# Altium footprint library SOP.PcbLib: 40 footprints (part 2 of 3)
Each footprint in its own frame and in the unit in brackets; x right, y up, seen from the top. Pads: shape width x height; smd on the part's side, far side on the other; paste and mask are expansions set on the pad; w line width, h text height; cw(c..) or ccw(c..) is an arc to the next point about the centre after c.
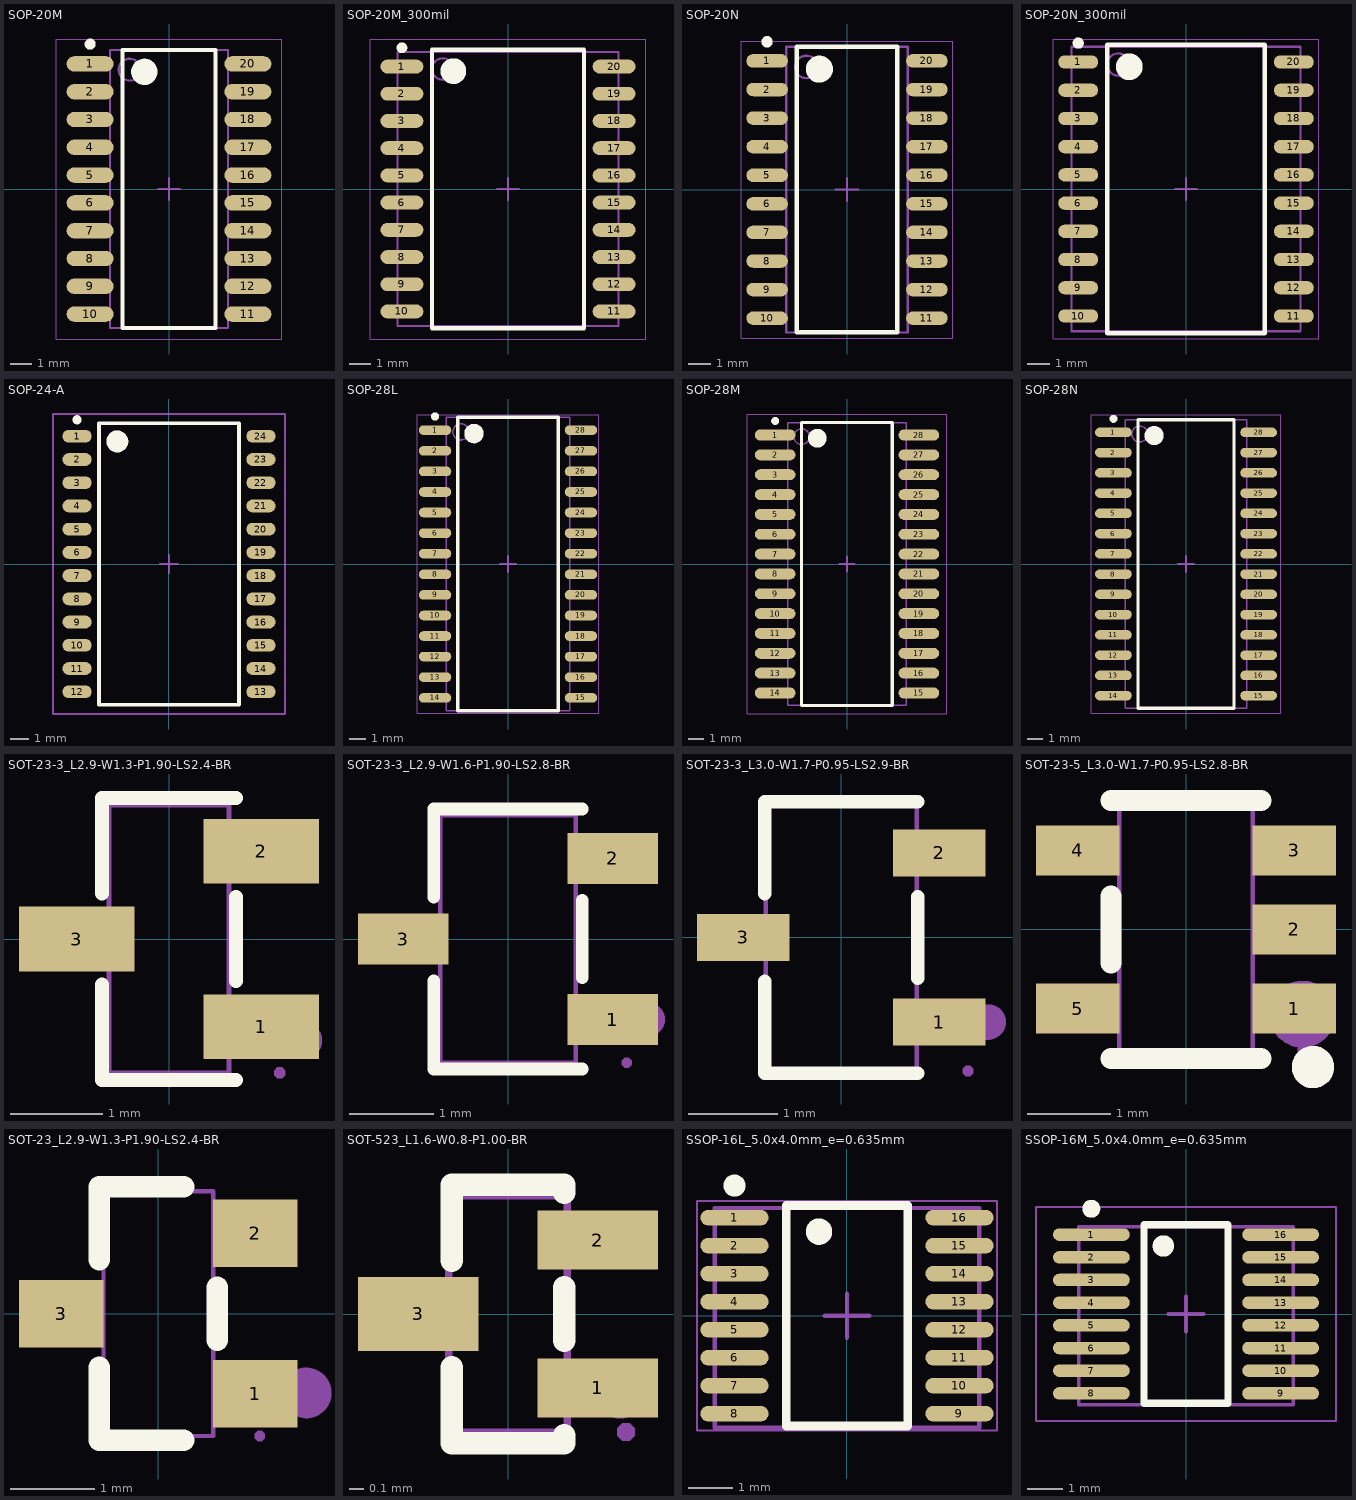
[diagram p1: the footprints below, top view; thin cyan lines are the x and y axes]

## SOP-20M [mm] "SOP, 20-Leads, Body 12.60x5.30mm, Pitch 1.27mm, IPC Low Density"
height 2.1
pads (20):
  oval 2.15x0.7 smd: 1(-3.6,5.715) 2(-3.6,4.445) 3(-3.6,3.175) 4(-3.6,1.905) 5(-3.6,0.635) 6(-3.6,-0.635) 7(-3.6,-1.905) 8(-3.6,-3.175) 9(-3.6,-4.445) 10(-3.6,-5.715) 11(3.6,-5.715) 12(3.6,-4.445) 13(3.6,-3.175) 14(3.6,-1.905) 15(3.6,-0.635) 16(3.6,0.635) 17(3.6,1.905) 18(3.6,3.175) 19(3.6,4.445) 20(3.6,5.715)
Top Overlay:
  circle w0.25: c-3.6,6.615 r0.125
  circle w0.6: c-1.125,5.35 r0.3
  lines w0.2: -2.125,-6.35 -2.125,6.35 2.125,6.35 2.125,-6.35 -2.125,-6.35
Mechanical 13:
  circle w0.1: c-1.8,5.45 r0.5
  lines w0.1: -2.7,-6.35 -2.7,6.35 2.7,6.35 2.7,-6.35 -2.7,-6.35
Mechanical 15:
  lines w0.05: -5.15,-6.85 -5.15,6.85 5.15,6.85 5.15,-6.85 -5.15,-6.85
  lines w0.1: -0.5,0 0.5,0 ; 0,-0.5 0,0.5
3D body: height 2.1, standoff 0.25, extent -2.7,-6.35 2.7,6.35

## SOP-20M_300mil [mm] "SOP, 20-Leads, Body 12.70x7.65mm, Pitch 1.27mm, IPC Low Density"
height 2.35
pads (20):
  oval 2x0.65 smd: 1(-4.95,5.715) 2(-4.95,4.445) 3(-4.95,3.175) 4(-4.95,1.905) 5(-4.95,0.635) 6(-4.95,-0.635) 7(-4.95,-1.905) 8(-4.95,-3.175) 9(-4.95,-4.445) 10(-4.95,-5.715) 11(4.95,-5.715) 12(4.95,-4.445) 13(4.95,-3.175) 14(4.95,-1.905) 15(4.95,-0.635) 16(4.95,0.635) 17(4.95,1.905) 18(4.95,3.175) 19(4.95,4.445) 20(4.95,5.715)
Top Overlay:
  circle w0.6: c-2.55,5.5 r0.3
  circle w0.25: c-4.95,6.59 r0.125
  lines w0.2: -3.55,-6.5 3.55,-6.5 3.55,6.5 -3.55,6.5 -3.55,-6.5
Mechanical 13:
  circle w0.1: c-3.05,5.6 r0.5
  lines w0.1: -5.15,-6.4 -5.15,6.4 5.15,6.4 5.15,-6.4 -5.15,-6.4
Mechanical 15:
  lines w0.05: -6.425,-7 6.425,-7 6.425,7 -6.425,7 -6.425,-7
  lines w0.1: -0.5,0 0.5,0 ; 0,-0.5 0,0.5
3D body "SOP-20_300mil.STEP": height 2.7, standoff 0, extent -5.15,-6.4 5.15,6.4

## SOP-20N [mm] "SOP, 20-Leads, Body 12.60x5.30mm, Pitch 1.27mm, IPC Medium Density"
height 2.1
pads (20):
  oval 1.85x0.6 smd: 1(-3.55,5.715) 2(-3.55,4.445) 3(-3.55,3.175) 4(-3.55,1.905) 5(-3.55,0.635) 6(-3.55,-0.635) 7(-3.55,-1.905) 8(-3.55,-3.175) 9(-3.55,-4.445) 10(-3.55,-5.715) 11(3.55,-5.715) 12(3.55,-4.445) 13(3.55,-3.175) 14(3.55,-1.905) 15(3.55,-0.635) 16(3.55,0.635) 17(3.55,1.905) 18(3.55,3.175) 19(3.55,4.445) 20(3.55,5.715)
Top Overlay:
  circle w0.6: c-1.225,5.35 r0.3
  circle w0.25: c-3.55,6.565 r0.125
  lines w0.2: -2.225,-6.35 2.225,-6.35 2.225,6.35 -2.225,6.35 -2.225,-6.35
Mechanical 13:
  circle w0.1: c-1.8,5.45 r0.5
  lines w0.1: -2.7,-6.35 2.7,-6.35 2.7,6.35 -2.7,6.35 -2.7,-6.35
Mechanical 15:
  lines w0.05: -4.7,-6.6 4.7,-6.6 4.7,6.6 -4.7,6.6 -4.7,-6.6
  lines w0.1: -0.5,0 0.5,0 ; 0,-0.5 0,0.5
3D body: height 2.1, standoff 0.25, extent -2.7,-6.35 2.7,6.35

## SOP-20N_300mil [mm] "SOP, 20-Leads, Body 12.70x7.65mm, Pitch 1.27mm, IPC Medium Density"
height 2.35
pads (20):
  oval 1.8x0.6 smd: 1(-4.85,5.715) 2(-4.85,4.445) 3(-4.85,3.175) 4(-4.85,1.905) 5(-4.85,0.635) 6(-4.85,-0.635) 7(-4.85,-1.905) 8(-4.85,-3.175) 9(-4.85,-4.445) 10(-4.85,-5.715) 11(4.85,-5.715) 12(4.85,-4.445) 13(4.85,-3.175) 14(4.85,-1.905) 15(4.85,-0.635) 16(4.85,0.635) 17(4.85,1.905) 18(4.85,3.175) 19(4.85,4.445) 20(4.85,5.715)
Top Overlay:
  circle w0.6: c-2.55,5.5 r0.3
  circle w0.25: c-4.85,6.565 r0.125
  lines w0.2: -3.55,-6.5 3.55,-6.5 3.55,6.5 -3.55,6.5 -3.55,-6.5
Mechanical 13:
  circle w0.1: c-3.05,5.6 r0.5
  lines w0.1: -5.15,-6.4 5.15,-6.4 5.15,6.4 -5.15,6.4 -5.15,-6.4
Mechanical 15:
  lines w0.05: -5.975,-6.75 5.975,-6.75 5.975,6.75 -5.975,6.75 -5.975,-6.75
  lines w0.1: -0.5,0 0.5,0 ; 0,-0.5 0,0.5
3D body "SOP-20_300mil.STEP": height 2.7, standoff 0, extent -5.15,-6.4 5.15,6.4

## SOP-24-A [mm] "SOP, 24-Leads, Body 15.4x7.6mm (max), Pitch 1.27mm, IPC Low Density"
height 1.75
pads (24):
  oval 1.6x0.7 smd: 1(-5.025,6.985) 2(-5.025,5.715) 3(-5.025,4.445) 4(-5.025,3.175) 5(-5.025,1.905) 6(-5.025,0.635) 7(-5.025,-0.635) 8(-5.025,-1.905) 9(-5.025,-3.175) 10(-5.025,-4.445) 11(-5.025,-5.715) 12(-5.025,-6.985) 13(5.025,-6.985) 14(5.025,-5.715) 15(5.025,-4.445) 16(5.025,-3.175) 17(5.025,-1.905) 18(5.025,-0.635) 19(5.025,0.635) 20(5.025,1.905) 21(5.025,3.175) 22(5.025,4.445) 23(5.025,5.715) 24(5.025,6.985)
Top Overlay:
  circle w0.6: c-2.825,6.7 r0.3
  circle w0.25: c-5.025,7.885 r0.125
  lines w0.2: -3.825,-7.7 3.825,-7.7 3.825,7.7 -3.825,7.7 -3.825,-7.7
Mechanical 13:
  circle w0.1: c-2.85,6.75 r0.5
  lines w0.1: -3.8,-7.7 3.8,-7.7 3.8,7.7 -3.8,7.7 -3.8,-7.7
Mechanical 15:
  lines w0.1: -0.5,0 0.5,0 ; 0,-0.5 0,0.5 ; -6.35,-8.2 6.35,-8.2 6.35,8.2 -6.35,8.2 -6.35,-8.2
3D body: height 1.75, standoff 0.2, extent -3.8,-7.7 3.8,7.7

## SOP-28L [mm] "SOP, 28-Leads, Body 17.90x7.06mm, Pitch 1.27mm, IPC High Density"
height 2.64
pads (28):
  oval 2x0.6 smd: 1(-4.5,8.255) 2(-4.5,6.985) 3(-4.5,5.715) 4(-4.5,4.445) 5(-4.5,3.175) 6(-4.5,1.905) 7(-4.5,0.635) 8(-4.5,-0.635) 9(-4.5,-1.905) 10(-4.5,-3.175) 11(-4.5,-4.445) 12(-4.5,-5.715) 13(-4.5,-6.985) 14(-4.5,-8.255) 15(4.5,-8.255) 16(4.5,-6.985) 17(4.5,-5.715) 18(4.5,-4.445) 19(4.5,-3.175) 20(4.5,-1.905) 21(4.5,-0.635) 22(4.5,0.635) 23(4.5,1.905) 24(4.5,3.175) 25(4.5,4.445) 26(4.5,5.715) 27(4.5,6.985) 28(4.5,8.255)
Top Overlay:
  circle w0.6: c-2.1,8.05 r0.3
  circle w0.25: c-4.5,9.105 r0.125
  lines w0.2: -3.1,-9.05 3.1,-9.05 3.1,9.05 -3.1,9.05 -3.1,-9.05
Mechanical 13:
  circle w0.1: c-2.9,8.15 r0.5
  lines w0.1: -3.8,-9.05 3.8,-9.05 3.8,9.05 -3.8,9.05 -3.8,-9.05
Mechanical 15:
  lines w0.05: -5.6,-9.2 5.6,-9.2 5.6,9.2 -5.6,9.2 -5.6,-9.2
  lines w0.1: -0.5,0 0.5,0 ; 0,-0.5 0,0.5
3D body: height 2.64, standoff 0.2, extent -3.8,-9.05 3.8,9.05

## SOP-28M [mm] "SOP, 28-Leads, Body 17.90x7.06mm, Pitch 1.27mm, IPC Low Density"
height 2.64
pads (28):
  oval 2.6x0.7 smd: 1(-4.6,8.255) 2(-4.6,6.985) 3(-4.6,5.715) 4(-4.6,4.445) 5(-4.6,3.175) 6(-4.6,1.905) 7(-4.6,0.635) 8(-4.6,-0.635) 9(-4.6,-1.905) 10(-4.6,-3.175) 11(-4.6,-4.445) 12(-4.6,-5.715) 13(-4.6,-6.985) 14(-4.6,-8.255) 15(4.6,-8.255) 16(4.6,-6.985) 17(4.6,-5.715) 18(4.6,-4.445) 19(4.6,-3.175) 20(4.6,-1.905) 21(4.6,-0.635) 22(4.6,0.635) 23(4.6,1.905) 24(4.6,3.175) 25(4.6,4.445) 26(4.6,5.715) 27(4.6,6.985) 28(4.6,8.255)
Top Overlay:
  circle w0.25: c-4.6,9.155 r0.125
  circle w0.6: c-1.9,8.05 r0.3
  lines w0.2: -2.9,-9.05 -2.9,9.05 2.9,9.05 2.9,-9.05 -2.9,-9.05
Mechanical 13:
  circle w0.1: c-2.9,8.15 r0.5
  lines w0.1: -3.8,-9.05 -3.8,9.05 3.8,9.05 3.8,-9.05 -3.8,-9.05
Mechanical 15:
  lines w0.05: -6.4,-9.6 -6.4,9.6 6.4,9.6 6.4,-9.6 -6.4,-9.6
  lines w0.1: -0.5,0 0.5,0 ; 0,-0.5 0,0.5
3D body: height 2.64, standoff 0.2, extent -3.8,-9.05 3.8,9.05

## SOP-28N [mm] "SOP, 28-Leads, Body 17.90x7.06mm, Pitch 1.27mm, IPC Medium Density"
height 2.64
pads (28):
  oval 2.3x0.6 smd: 1(-4.55,8.255) 2(-4.55,6.985) 3(-4.55,5.715) 4(-4.55,4.445) 5(-4.55,3.175) 6(-4.55,1.905) 7(-4.55,0.635) 8(-4.55,-0.635) 9(-4.55,-1.905) 10(-4.55,-3.175) 11(-4.55,-4.445) 12(-4.55,-5.715) 13(-4.55,-6.985) 14(-4.55,-8.255) 15(4.55,-8.255) 16(4.55,-6.985) 17(4.55,-5.715) 18(4.55,-4.445) 19(4.55,-3.175) 20(4.55,-1.905) 21(4.55,-0.635) 22(4.55,0.635) 23(4.55,1.905) 24(4.55,3.175) 25(4.55,4.445) 26(4.55,5.715) 27(4.55,6.985) 28(4.55,8.255)
Top Overlay:
  circle w0.25: c-4.55,9.105 r0.125
  circle w0.6: c-2,8.05 r0.3
  lines w0.2: -3,-9.05 -3,9.05 3,9.05 3,-9.05 -3,-9.05
Mechanical 13:
  circle w0.1: c-2.9,8.15 r0.5
  lines w0.1: -3.8,-9.05 -3.8,9.05 3.8,9.05 3.8,-9.05 -3.8,-9.05
Mechanical 15:
  lines w0.05: -5.95,-9.35 -5.95,9.35 5.95,9.35 5.95,-9.35 -5.95,-9.35
  lines w0.1: -0.5,0 0.5,0 ; 0,-0.5 0,0.5
3D body: height 2.64, standoff 0.2, extent -3.8,-9.05 3.8,9.05

## SOT-23-3_L2.9-W1.3-P1.90-LS2.4-BR [mm]
pads (3):
  rect 1.25x0.7 smd paste+0 mask+0.051: 1(1,-0.95) 2(1,0.95) 3(-1,0)
Top Overlay:
  lines w0.152: -0.726,-0.495 -0.726,-1.526 0.726,-1.526 ; -0.726,0.495 -0.726,1.526 0.726,1.526 ; 0.726,-0.455 0.726,0.455
Mechanical 6:
  circle w0.2: c1.46,-1.1 r0.1
Mechanical 15:
  region: -1.2,-0.215 -1.2,0.215 -0.9,0.215 -0.9,-0.215
  region: -0.91,-0.215 -0.91,0.215 -0.64,0.215 -0.64,-0.215
  region: 0.9,-1.165 0.9,-0.735 1.2,-0.735 1.2,-1.165
  region: 0.64,-1.165 0.64,-0.735 0.91,-0.735 0.91,-1.165
  region: 0.9,0.735 0.9,1.165 1.2,1.165 1.2,0.735
  region: 0.64,0.735 0.64,1.165 0.91,1.165 0.91,0.735
  region: 1.2,-1.51 1.225,-1.51 1.26,-1.475 1.26,-1.425 1.225,-1.39 1.2,-1.39 1.175,-1.39 1.14,-1.425 1.14,-1.475 1.175,-1.51 1.2,-1.51
  lines w0.051: -0.65,-1.45 0.65,-1.45 0.65,1.45 -0.65,1.45 -0.65,-1.45

## SOT-23-3_L2.9-W1.6-P1.90-LS2.8-BR [mm]
pads (3):
  rect 1.07x0.6 smd paste+0 mask+0.051: 1(1.235,-0.95) 2(1.235,0.95) 3(-1.235,0)
Top Overlay:
  lines w0.152: -0.876,-0.495 -0.876,-1.536 0.876,-1.536 ; -0.876,0.495 -0.876,1.536 0.876,1.536 ; 0.876,-0.455 0.876,0.455
Mechanical 6:
  circle w0.2: c1.651,-0.95 r0.1
Mechanical 15:
  region: -0.96,-0.2 -0.96,0.2 -0.79,0.2 -0.79,-0.2
  region: -0.95,-0.2 -0.95,0.2 -1.4,0.2 -1.4,-0.2
  region: 0.79,0.75 0.79,1.15 0.96,1.15 0.96,0.75
  region: 0.95,0.75 0.95,1.15 1.4,1.15 1.4,0.75
  region: 0.79,-1.15 0.79,-0.75 0.96,-0.75 0.96,-1.15
  region: 0.95,-1.15 0.95,-0.75 1.4,-0.75 1.4,-1.15
  region: 1.4,-1.52 1.425,-1.52 1.46,-1.485 1.46,-1.435 1.425,-1.4 1.4,-1.4 1.375,-1.4 1.34,-1.435 1.34,-1.485 1.375,-1.52 1.4,-1.52
  lines w0.051: -0.8,-1.46 0.8,-1.46 0.8,1.46 -0.8,1.46 -0.8,-1.46

## SOT-23-3_L3.0-W1.7-P0.95-LS2.9-BR [mm]
pads (3):
  rect 1.037x0.532 smd paste+0 mask+0.051: 1(1.101,-0.95) 2(1.101,0.95) 3(-1.101,0)
Top Overlay:
  lines w0.152: -0.859,-0.495 -0.859,-1.526 0.859,-1.526 ; -0.859,0.495 -0.859,1.526 0.859,1.526 ; 0.859,-0.455 0.859,0.455
Mechanical 6:
  circle w0.2: c1.65,-0.95 r0.1
Mechanical 15:
  region: 1,-1.137 1,-0.762 1.425,-0.762 1.425,-1.137
  region: 0.815,-1.137 0.815,-0.762 1.01,-0.762 1.01,-1.137
  region: 1,0.762 1,1.137 1.425,1.137 1.425,0.762
  region: 0.815,0.762 0.815,1.137 1.01,1.137 1.01,0.762
  region: -1.425,-0.188 -1.425,0.188 -1,0.188 -1,-0.188
  region: -1.01,-0.188 -1.01,0.188 -0.815,0.188 -0.815,-0.188
  region: 1.425,-1.56 1.45,-1.56 1.485,-1.525 1.485,-1.475 1.45,-1.44 1.425,-1.44 1.4,-1.44 1.365,-1.475 1.365,-1.525 1.4,-1.56 1.425,-1.56
  lines w0.051: -0.85,-1.5 -0.85,1.5 0.85,1.5 0.85,-1.5 -0.85,-1.5

## SOT-23-5_L3.0-W1.7-P0.95-LS2.8-BR [mm]
pads (5):
  rect 1x0.6 smd paste+0 mask+0.051: 1(1.3,-0.95) 2(1.3,0) 3(1.3,0.95) 4(-1.3,0.95) 5(-1.3,-0.95)
Top Overlay:
  circle w0.254: c1.524,-1.651 r0.127
  lines w0.254: -0.9,-1.55 0.9,-1.55 ; -0.9,-0.4 -0.9,0.4 ; -0.9,1.55 0.9,1.55
Mechanical 6:
  circle w0.4: c1.397,-1.016 r0.2
Mechanical 15:
  region: 1.4,-1.51 1.425,-1.51 1.46,-1.475 1.46,-1.425 1.425,-1.39 1.4,-1.39 1.375,-1.39 1.34,-1.425 1.34,-1.475 1.375,-1.51 1.4,-1.51
  region: 0.79,-1.15 0.79,-0.75 0.96,-0.75 0.96,-1.15
  region: 0.95,-1.15 0.95,-0.75 1.4,-0.75 1.4,-1.15
  region: 0.79,-0.2 0.79,0.2 0.96,0.2 0.96,-0.2
  region: 0.95,-0.2 0.95,0.2 1.4,0.2 1.4,-0.2
  region: 0.79,0.75 0.79,1.15 0.96,1.15 0.96,0.75
  region: 0.95,0.75 0.95,1.15 1.4,1.15 1.4,0.75
  region: -0.96,0.75 -0.96,1.15 -0.79,1.15 -0.79,0.75
  region: -1.4,0.75 -1.4,1.15 -0.95,1.15 -0.95,0.75
  region: -0.96,-1.15 -0.96,-0.75 -0.79,-0.75 -0.79,-1.15
  region: -1.4,-1.15 -1.4,-0.75 -0.95,-0.75 -0.95,-1.15
  lines w0.051: -0.8,-1.45 0.8,-1.45 0.8,1.45 -0.8,1.45 -0.8,-1.45

## SOT-23_L2.9-W1.3-P1.90-LS2.4-BR [mm]
pads (3):
  rect 1x0.8 smd paste+0 mask+0.051: 1(1.15,-0.95) 2(1.15,0.95) 3(-1.15,0)
Top Overlay:
  lines w0.254: -0.7,-0.636 -0.7,-1.5 0.3,-1.5 ; -0.7,0.636 -0.7,1.5 0.3,1.5 ; 0.7,-0.314 0.7,0.314
Mechanical 6:
  circle w0.3: c1.753,-0.94 r0.15
Mechanical 15:
  region: 1.2,-1.51 1.225,-1.51 1.26,-1.475 1.26,-1.425 1.225,-1.39 1.2,-1.39 1.175,-1.39 1.14,-1.425 1.14,-1.475 1.175,-1.51 1.2,-1.51
  region: 0.64,-1.15 0.64,-0.75 0.81,-0.75 0.81,-1.15
  region: 0.8,-1.15 0.8,-0.75 1.2,-0.75 1.2,-1.15
  region: 0.64,0.75 0.64,1.15 0.81,1.15 0.81,0.75
  region: 0.8,0.75 0.8,1.15 1.2,1.15 1.2,0.75
  region: -0.81,-0.2 -0.81,0.2 -0.64,0.2 -0.64,-0.2
  region: -1.2,-0.2 -1.2,0.2 -0.8,0.2 -0.8,-0.2
  lines w0.051: -0.65,-1.45 -0.65,1.45 0.65,1.45 0.65,-1.45 -0.65,-1.45

## SOT-523_L1.6-W0.8-P1.00-BR [mm]
pads (3):
  rect 0.816x0.4 smd paste+0 mask+0.051: 1(0.608,-0.5) 2(0.608,0.5)
  rect 0.816x0.5 smd paste+0 mask+0.051: 3(-0.608,0)
Top Overlay:
  lines w0.152: -0.381,-0.36 -0.381,-0.876 0.028,-0.876 0.381,-0.876 0.381,-0.82 ; -0.381,0.36 -0.381,0.876 0.381,0.876 0.381,0.82 ; 0.381,-0.18 0.381,0.18
Mechanical 6:
  circle w0.2: c0.762,-0.508 r0.1
Mechanical 15:
  region: 0.86,-0.8 0.86,-0.775 0.825,-0.74 0.775,-0.74 0.74,-0.775 0.74,-0.8 0.74,-0.825 0.775,-0.86 0.825,-0.86 0.86,-0.825 0.86,-0.8
  region: 0.44,-0.6 0.44,-0.4 0.8,-0.4 0.8,-0.6
  region: 0.39,-0.6 0.39,-0.4 0.45,-0.4 0.45,-0.6
  region: 0.44,0.4 0.44,0.6 0.8,0.6 0.8,0.4
  region: 0.39,0.4 0.39,0.6 0.45,0.6 0.45,0.4
  region: -0.44,-0.15 -0.44,0.15 -0.8,0.15 -0.8,-0.15
  region: -0.45,-0.15 -0.45,0.15 -0.39,0.15 -0.39,-0.15
  lines w0.051: -0.4,-0.8 -0.4,0.8 0.4,0.8 0.4,-0.8 -0.4,-0.8

## SSOP-16L_5.0x4.0mm_e=0.635mm [mm] "SOP, 16-Leads, Body 4.90x3.90mm, Pitch 0.64mm, IPC High Density"
height 1.75
pads (16):
  oval 1.55x0.35 smd: 1(-2.55,2.222) 2(-2.55,1.587) 3(-2.55,0.953) 4(-2.55,0.318) 5(-2.55,-0.318) 6(-2.55,-0.953) 7(-2.55,-1.587) 8(-2.55,-2.222) 9(2.55,-2.222) 10(2.55,-1.587) 11(2.55,-0.953) 12(2.55,-0.318) 13(2.55,0.318) 14(2.55,0.953) 15(2.55,1.587) 16(2.55,2.222)
Top Overlay:
  circle w0.3: c-0.635,1.905 r0.15
  circle w0.25: c-2.55,2.947 r0.125
  lines w0.2: -1.375,-2.5 1.375,-2.5 1.375,2.5 -1.375,2.5 -1.375,-2.5
Mechanical 13:
  lines w0.1: -2.997,-2.539 2.997,-2.539 2.997,2.439 -2.997,2.439 -2.997,-2.539
Mechanical 15:
  lines w0.05: -3.4,-2.6 3.4,-2.6 3.4,2.6 -3.4,2.6 -3.4,-2.6
  lines w0.1: -0.5,0 0.5,0 ; 0,-0.5 0,0.5
3D body "SSOP16_5.0x4.0mm_e=0.635mm.STEP": height 1.07, standoff -0.03, extent -2.997,-2.539 2.997,2.439

## SSOP-16M_5.0x4.0mm_e=0.635mm [mm] "SOP, 16-Leads, Body 4.90x3.90mm, Pitch 0.64mm, IPC Low Density"
height 1.75
pads (16):
  oval 2.15x0.35 smd: 1(-2.65,2.222) 2(-2.65,1.587) 3(-2.65,0.953) 4(-2.65,0.318) 5(-2.65,-0.318) 6(-2.65,-0.953) 7(-2.65,-1.587) 8(-2.65,-2.222) 9(2.65,-2.222) 10(2.65,-1.587) 11(2.65,-0.953) 12(2.65,-0.318) 13(2.65,0.318) 14(2.65,0.953) 15(2.65,1.587) 16(2.65,2.222)
Top Overlay:
  circle w0.3: c-0.635,1.905 r0.15
  circle w0.25: c-2.65,2.947 r0.125
  lines w0.2: -1.175,-2.5 1.175,-2.5 1.175,2.5 -1.175,2.5 -1.175,-2.5
Mechanical 13:
  lines w0.1: -2.997,-2.539 2.997,-2.539 2.997,2.439 -2.997,2.439 -2.997,-2.539
Mechanical 15:
  lines w0.05: -4.2,-3 4.2,-3 4.2,3 -4.2,3 -4.2,-3
  lines w0.1: -0.5,0 0.5,0 ; 0,-0.5 0,0.5
3D body "SSOP16_5.0x4.0mm_e=0.635mm.STEP": height 1.07, standoff -0.03, extent -2.997,-2.539 2.997,2.439